# Altium footprint library native-template.PcbLib: 1 footprints
Each footprint in its own frame and in the unit in brackets; x right, y up, seen from the top. Pads: shape width x height; smd on the part's side, far side on the other; paste and mask are expansions set on the pad; w line width, h text height; cw(c..) or ccw(c..) is an arc to the next point about the centre after c.
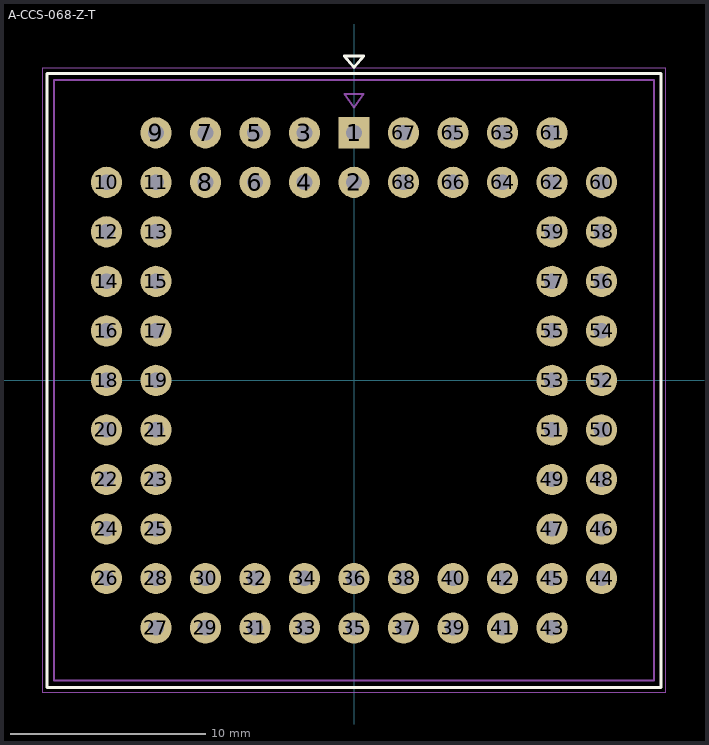
[diagram p0: the footprint, top view; thin cyan lines are the x and y axes]

## A-CCS-068-Z-T [mm] "Assmann A-CCS 068-Z-T, PLCC-68 THT socket for MC68EC000; ASS 0981 CO rev11; body 30.80 x 30.80 mm; 2.54 mm PCB grid; 68 plated 0.80 mm holes / 1.60 mm pads; pin 1 top center, top view; M2 component outline, M9 assembly, M11 designator, M15 courtyard; user component layer pairs; maximum height 8.43 mm."
height 8.43
pads (68):
  rect 1.6x1.6 hole 0.8 mask+0.075: 1(0,12.7)
  round 1.6 hole 0.8 mask+0.075: 2(0,10.16) 3(-2.54,12.7) 4(-2.54,10.16) 5(-5.08,12.7) 6(-5.08,10.16) 7(-7.62,12.7) 8(-7.62,10.16) 9(-10.16,12.7) 10(-12.7,10.16) 11(-10.16,10.16) 12(-12.7,7.62) 13(-10.16,7.62) 14(-12.7,5.08) 15(-10.16,5.08) 16(-12.7,2.54) 17(-10.16,2.54) 18(-12.7,0) 19(-10.16,0) 20(-12.7,-2.54) 21(-10.16,-2.54) 22(-12.7,-5.08) 23(-10.16,-5.08) 24(-12.7,-7.62) 25(-10.16,-7.62) 26(-12.7,-10.16) 27(-10.16,-12.7) 28(-10.16,-10.16) 29(-7.62,-12.7) 30(-7.62,-10.16) 31(-5.08,-12.7) 32(-5.08,-10.16) 33(-2.54,-12.7) 34(-2.54,-10.16) 35(0,-12.7) 36(0,-10.16) 37(2.54,-12.7) 38(2.54,-10.16) 39(5.08,-12.7) 40(5.08,-10.16) 41(7.62,-12.7) 42(7.62,-10.16) 43(10.16,-12.7) 44(12.7,-10.16) 45(10.16,-10.16) 46(12.7,-7.62) 47(10.16,-7.62) 48(12.7,-5.08) 49(10.16,-5.08) 50(12.7,-2.54) 51(10.16,-2.54) 52(12.7,0) 53(10.16,0) 54(12.7,2.54) 55(10.16,2.54) 56(12.7,5.08) 57(10.16,5.08) 58(12.7,7.62) 59(10.16,7.62) 60(12.7,10.16) 61(10.16,12.7) 62(10.16,10.16) 63(7.62,12.7) 64(7.62,10.16) 65(5.08,12.7) 66(5.08,10.16) 67(2.54,12.7) 68(2.54,10.16)
Top Overlay:
  lines w0.15: -15.75,-15.75 15.75,-15.75 15.75,15.75 -15.75,15.75 -15.75,-15.75 ; -0.5,16.65 0.5,16.65 0,16.05 -0.5,16.65
  text ".Designator" at 0,17.7 h1.25
M2:
  lines w0.1: -15.4,-15.4 15.4,-15.4 15.4,15.4 -15.4,15.4 -15.4,-15.4
M9:
  lines w0.1: -15.4,-15.4 15.4,-15.4 15.4,15.4 -15.4,15.4 -15.4,-15.4 ; -0.5,14.7 0.5,14.7 0,14 -0.5,14.7
M11:
  text ".Designator" at 0,0 h1.5
M15:
  lines w0.05: -16,-16 16,-16 16,16 -16,16 -16,-16